# EAGLE library part SI4464 (library habexpico8)
SI Labs
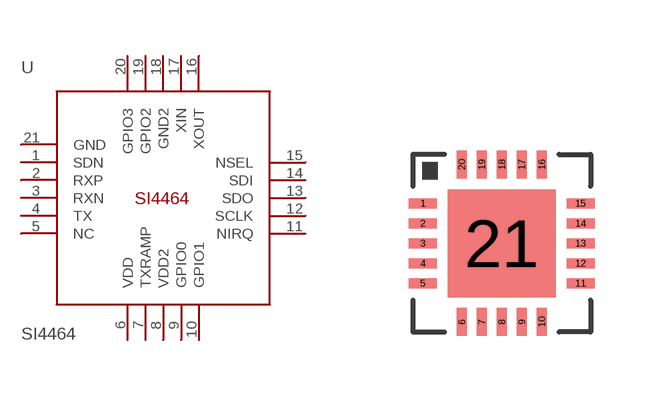
[diagram p0: symbol with the pads of QFN20+GNDPAD; footprint QFN20+GNDPAD]

Designator prefix -

## SI4464  [QFN20+GNDPAD]
1  SDN
2  RXP
3  RXN
4  TX
5  NC
6  VDD
7  TXRAMP
8  VDD2
9  GPIO0
10  GPIO1
11  NIRQ
12  SCLK
13  SDO
14  SDI
15  NSEL
16  XOUT
17  XIN
18  GND2
19  GPIO2
20  GPIO3
21  GND

## Footprint QFN20+GNDPAD (pad centres in mm)
smd 0.7 x 0.25: 1 -1.97,1; 2 -1.97,0.5; 3 -1.97,0; 4 -1.97,-0.5; 5 -1.97,-1; 11 1.97,-1; 12 1.97,-0.5; 13 1.97,0; 14 1.97,0.5; 15 1.97,1
smd 0.25 x 0.7: 6 -1,-1.97; 7 -0.5,-1.97; 8 0,-1.97; 9 0.5,-1.97; 10 1,-1.97; 16 1,1.97; 17 0.5,1.97; 18 0,1.97; 19 -0.5,1.97; 20 -1,1.97
smd 2.7 x 2.7: 21 0,0